# Altium footprint library Power_Card_1.PcbLib: 40 footprints (part 2 of 3)
Each footprint in its own frame and in the unit in brackets; x right, y up, seen from the top. Pads: shape width x height; smd on the part's side, far side on the other; paste and mask are expansions set on the pad; w line width, h text height; cw(c..) or ccw(c..) is an arc to the next point about the centre after c.
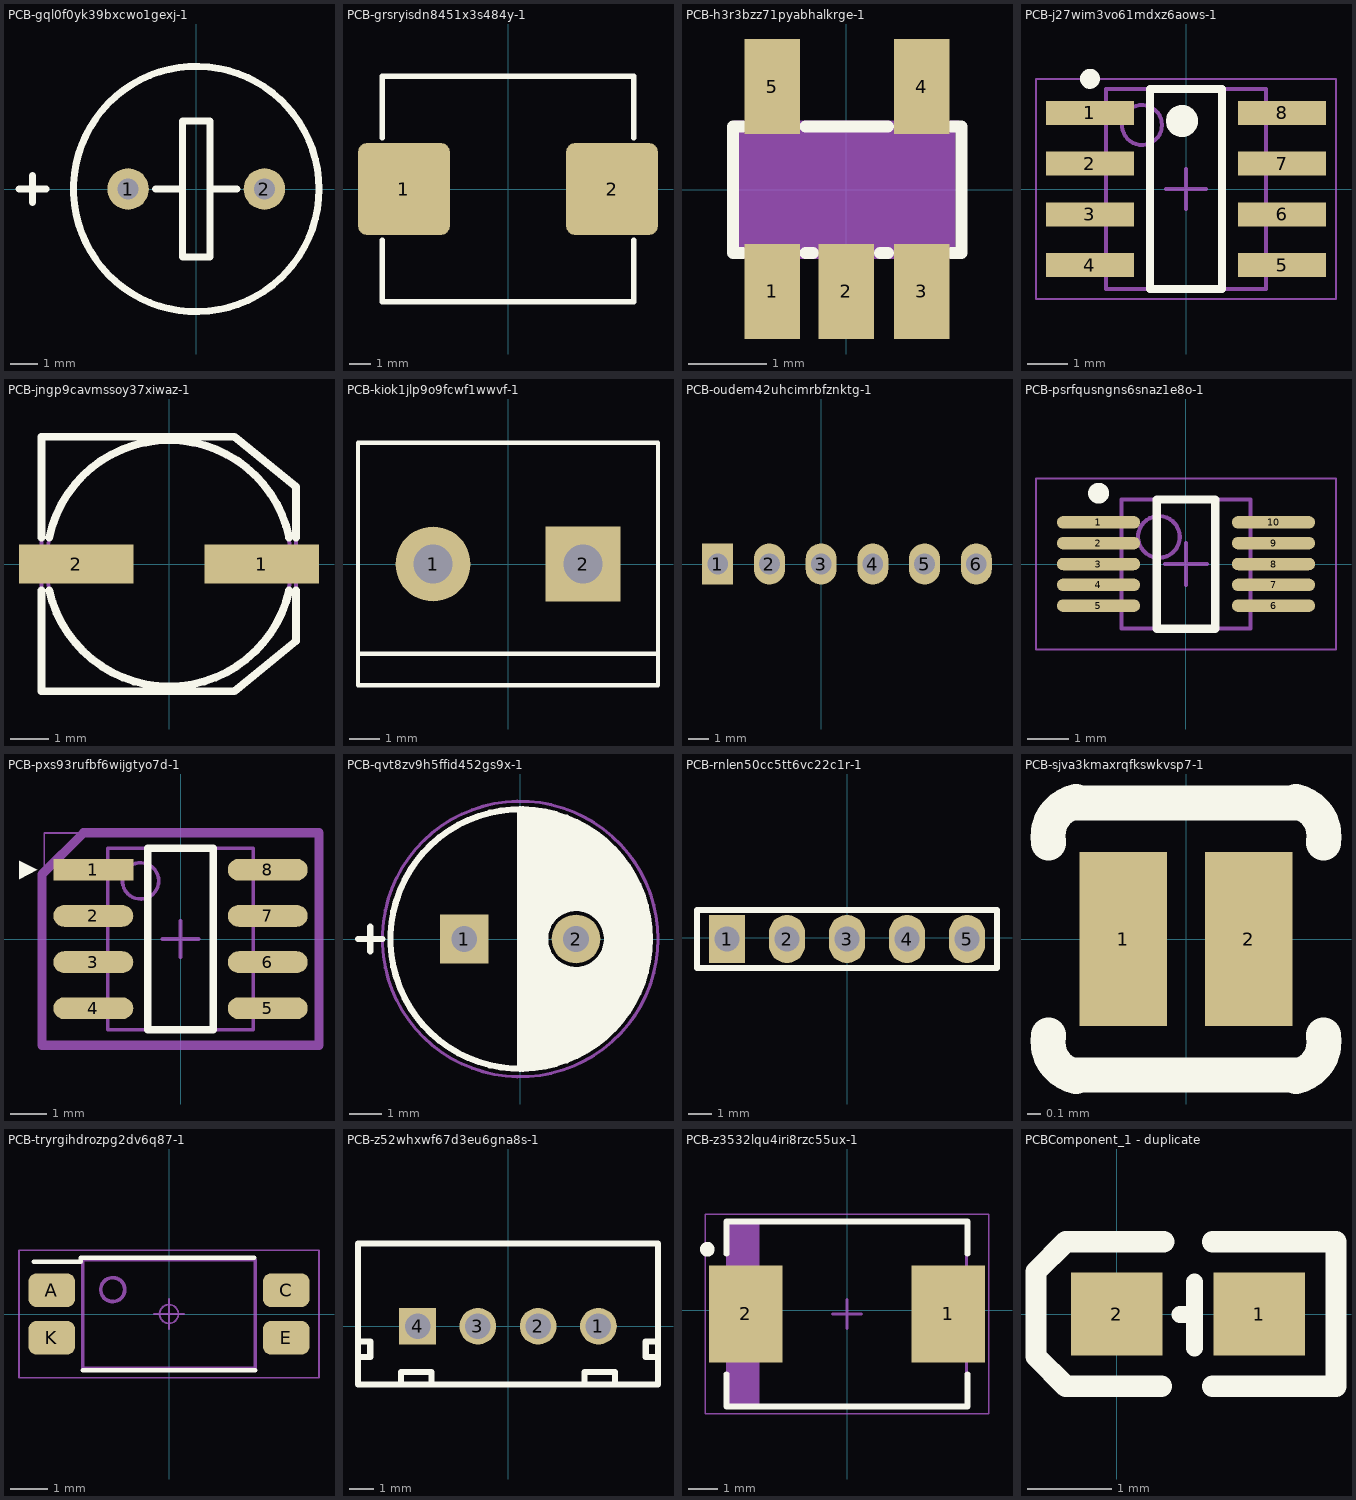
[diagram p1: the footprints below, top view; thin cyan lines are the x and y axes]

## PCB-gql0f0yk39bxcwo1gexj-1 [mil]
pads (2):
  round 60 hole 30: 1(-98.43,0) 2(98.43,0)
Top Overlay:
  circle w10: c0,0 r177.17
  lines w10: -255.91,0 -216.54,0 -226.38,0 ; -236.22,-19.68 -236.22,19.68 ; -59.06,0 -19.68,0 ; 19.68,0 59.06,0 ; -19.68,-98.43 19.68,-98.43 19.68,98.43 -19.68,98.43 -19.68,-98.43
3D body "CUI_DEVICES_CPE-171.step": height 314.96, standoff -157.48, extent -177.17,-177.17 177.16,177.16

## PCB-grsryisdn8451x3s484y-1 [mm]
pads (2):
  rrect20% 4.2x4.2 smd: 1(-4.75,0) 2(4.75,0)
Top Overlay:
  lines w0.254: -5.75,-2.35 -5.75,-2.5 -5.75,-5.15 5.75,-5.15 5.75,-2.5 5.75,-2.35 ; -5.75,2.35 -5.75,2.5 -5.75,5 ; -5.75,4.5 -5.75,5.15 5.75,5.15 5.75,2.5 5.75,2.35
3D body "INDP115100X40M.step": height 4.1, standoff 0, extent -5.85,-5 5.85,5

## PCB-h3r3bzz71pyabhalkrge-1 [mil]
pads (5):
  rect 28x48 smd: 1(-37.4,-51.19) 2(0,-51.19) 3(38,-51.19) 4(38,52) 5(-37.4,52)
Top Overlay:
  lines w6: -52.27,-31.91 -57.09,-31.91 -57.09,32 -52.27,32 ; -20.57,-31.91 -16.83,-31.91 ; -20.57,32 21,32 ; 17,-31.91 21,-31.91 ; 53,-31.91 58,-31.91 58,32 53,32
Mechanical 16:
  rectangle: -47.25,34 -27.56,60
  rectangle: 28,34 48,60
  rectangle: 28,-59.05 48,-33.46
  rectangle: -9.84,-59.06 10,-33.46
  rectangle: -47.24,-59.06 -27.56,-33.46
  lines w6: -56,-31.91 56,-31.91 ; -56,32 56,32
Mechanical 27:
  rectangle: -55,-30 55,30
3D body "SOT23-5.stp": height 57.09, standoff 0, extent -57.09,-55.32 57.09,55.33

## PCB-j27wim3vo61mdxz6aows-1 [mm]
pads (8):
  rect 2.2x0.6 smd: 1(-2.4,1.905) 2(-2.4,0.635) 3(-2.4,-0.635) 4(-2.4,-1.905) 5(2.4,-1.905) 6(2.4,-0.635) 7(2.4,0.635) 8(2.4,1.905)
Top Overlay:
  circle w0.4: c-0.1,1.7 r0.2
  circle w0.25: c-2.4,2.755 r0.125
  lines w0.2: -0.9,-2.5 0.9,-2.5 0.9,2.5 -0.9,2.5 -0.9,-2.5
Mechanical 13:
  circle w0.1: c-1.1,1.6 r0.5
  lines w0.1: -2,-2.5 2,-2.5 2,2.5 -2,2.5 -2,-2.5
Mechanical 15:
  lines w0.05: -3.75,-2.75 3.75,-2.75 3.75,2.75 -3.75,2.75 -3.75,-2.75
  lines w0.1: -0.5,0 0.5,0 ; 0,-0.5 0,0.5
3D body "SO-8.step": height 1.88, standoff -0.03, extent -3.169,-2.504 3.169,2.5

## PCB-jngp9cavmssoy37xiwaz-1 [mil]
pads (2):
  rect 117x40 smd: 1(94.74,0) 2(-94.74,0)
Top Overlay:
  lines w8: -130.18,-26.97 -130.18,-129.92 66.74,-129.92 129.74,-78.74 129.74,-26.97 ; -130.18,27 -130.18,130 66.74,130 129.74,79 129.74,27 ; -122.3,-26.97 ccw(c0.22,0.48) 122.74,-26.97 ; -122.3,27 cw(c0.22,1.52) 122.74,27
Mechanical 16:
  circle w4: c-0.26,0 r125
  lines w4: -130.18,-129.92 -130.18,130 66.74,130 129.74,79 129.74,-78.74 66.74,-129.92 -130.18,-129.92
3D body "NIPPON_F80.stp": height 314.96, standoff 0, extent -153.55,-129.92 153.54,129.92

## PCB-kiok1jlp9o9fcwf1wwvf-1 [mm]
pads (2):
  round 2.5 hole 1.3: 1(-2.5,0)
  rect 2.5x2.5 hole 1.3: 2(2.5,0)
Top Overlay:
  lines w0.15: -5,-3 5,-3 ; -5,-4.05 -5,4.05 5,4.05 5,-4.05 -5,-4.05
3D body "1729018.stp": height 10, standoff -3.5, extent -5.57,-4.075 5,4.075

## PCB-oudem42uhcimrbfznktg-1 [mil]
pads (6):
  rect 60x80 hole 40: 1(-200,0)
  oval 60x80 hole 40: 2(-100,0) 3(0,0) 4(100,0) 5(200,0) 6(300,0)
3D body "6 Pitch 2.54mm header.step": height 373.85, standoff -125.98, extent -250,-52 350,48

## PCB-psrfqusngns6snaz1e8o-1 [mm]
pads (10):
  oval 2x0.3 smd: 1(-2.1,1) 2(-2.1,0.5) 3(-2.1,0) 4(-2.1,-0.5) 5(-2.1,-1) 6(2.1,-1) 7(2.1,-0.5) 8(2.1,0) 9(2.1,0.5) 10(2.1,1)
Top Overlay:
  circle w0.25: c-2.1,1.7 r0.125
  lines w0.2: -0.7,-1.55 -0.7,1.55 0.7,1.55 0.7,-1.55 -0.7,-1.55
Mechanical 13:
  circle w0.1: c-0.65,0.65 r0.5
  lines w0.1: -1.55,-1.55 -1.55,1.55 1.55,1.55 1.55,-1.55 -1.55,-1.55
Mechanical 15:
  lines w0.05: -3.6,-2.05 -3.6,2.05 3.6,2.05 3.6,-2.05 -3.6,-2.05
  lines w0.1: -0.5,0 0.5,0 ; 0,-0.5 0,0.5
3D body: height 1.1, standoff 0, extent -1.55,-1.55 1.55,1.55

## PCB-pxs93rufbf6wijgtyo7d-1 [mm]
pads (8):
  rect 2.2x0.6 smd: 1(-2.4,1.905)
  oval 2.2x0.6 smd: 2(-2.4,0.635) 3(-2.4,-0.635) 4(-2.4,-1.905) 5(2.4,-1.905) 6(2.4,-0.635) 7(2.4,0.635) 8(2.4,1.905)
Top Overlay:
  region: -3.937,1.905 -4.445,2.159 -4.445,1.651
  lines w0.2: -0.9,-2.5 0.9,-2.5 0.9,2.5 -0.9,2.5 -0.9,-2.5
Mechanical 8:
  lines w0.254: -3.81,-2.921 -3.81,1.778 -2.667,2.921 3.81,2.921 3.81,-2.921 -3.81,-2.921
  text ".Designator" at -3.175,-0.889 h1.52
Mechanical 13:
  circle w0.1: c-1.1,1.6 r0.5
  lines w0.1: -2,-2.5 2,-2.5 2,2.5 -2,2.5 -2,-2.5
Mechanical 15:
  lines w0.05: -3.75,-2.921 3.75,-2.921 3.75,2.921 -3.75,2.921 -3.75,-2.921
  lines w0.1: -0.5,0 0.5,0 ; 0,-0.5 0,0.5
3D body "User Library-SOIC-8-1.step": height 1.75, standoff 0, extent -3,-2.45 3,2.45

## PCB-qvt8zv9h5ffid452gs9x-1 [mil]
pads (2):
  rect 60x60 hole 31.5: 1(-68.9,-0.01)
  round 60 hole 31.5: 2(68.89,-0.01)
Top Overlay:
  circle w30: c68.89,-0.01 r53.89
  circle w10: c68.89,-0.01 r39.35
  circle w7.87: c0,0 r160
  region: 0,15 0,160 55,150 105,120 135,85 155,40 160,-10 145,-65 115,-110 75,-140 25,-160 0,-160 0,-5 45,-45 95,-40 120,-5 80,55 20,5
  lines w7.87: -200,0 -170,0 ; -185,-15 -185,15 ; 0,-160 0,160
Mechanical 1:
  circle w3.94: c0,0 r170
3D body "User%20Library-CAPAER_D080_L125_P035_W006X030[1].STEP": height 492.65, standoff -118.11, extent -157.48,-157.48 157.87,157.48

## PCB-rnlen50cc5tt6vc22c1r-1 [mil]
pads (5):
  rect 60x80 hole 42: 1(-200,-2)
  oval 60x80 hole 42: 2(-100,-2) 3(0,-2) 4(100,-2) 5(200,-2)
Top Overlay:
  lines w10: -250,-50 250,-50 250,46 -250,46 -250,-50
3D body "929-Header-1x5.step": height 407.5, standoff -127.5, extent -250,-50 250,46

## PCB-sjva3kmaxrqfkswkvsp7-1 [mil]
pads (2):
  rect 25x50 smd: 1(-18,0) 2(18,0)
Top Overlay:
  lines w10: -39.37,-27.56 ccw(c-29.53,-29.53) -31.5,-39.37 ; -39.37,27.56 cw(c-29.53,29.53) -31.5,39.37 ; -31,-39 31,-39 ; -31,39 31,39 ; 31.49,-39.37 ccw(c29.53,-29.53) 39.37,-27.56 ; 31.49,39.37 cw(c29.53,29.53) 39.37,27.56

## PCB-tryrgihdrozpg2dv6q87-1 [mm]
pads (4):
  rrect50% 1.25x0.9 smd: A(-3.125,0.635) C(3.125,0.635) E(3.125,-0.635) K(-3.125,-0.635)
Top Overlay:
  lines w0.12: -3.6,1.4 -2.35,1.4 -2.35,1.5 2.275,1.5 ; -2.3,-1.5 2.3,-1.5
Mechanical 8:
  circle w0.1: c-1.5,0.65 r0.32
  lines w0.1: -2.3,-1.45 -2.3,1.45 2.3,1.45 2.3,-1.45 -2.3,-1.45
  text ".Designator" at -2,-0.875 h1.27
Mechanical 15:
  circle w0.05: c0,0 r0.25
  lines w0.05: -0.4,0 0.4,0 ; 0,-0.4 0,0.4 ; -4,-1.7 4,-1.7 4,1.7 -4,1.7 -4,-1.7
3D body "SSOP-4.STEP": height 2.1, standoff 0, extent -3.5,-1.425 3.5,1.425

## PCB-z52whxwf67d3eu6gna8s-1 [mil]
pads (4):
  round 60 hole 42: 1(147.64,0) 2(49.21,0) 3(-49.21,0)
  rect 60x60 hole 42: 4(-147.64,0)
Top Overlay:
  lines w10: -245,-50 -225,-50 -225,-25 -245,-25 ; -175,-95 -175,-75 -125,-75 -125,-95 ; 125,-95 125,-75 175,-75 175,-95 ; 245,-50 225,-50 225,-25 245,-25 ; -245,-95 245,-95 245,135 -245,135 -245,-95
3D body "B4B-XH-A.STEP": height 275.59, standoff -133.86, extent -244.09,-93.18 244.1,133.2

## PCB-z3532lqu4iri8rzc55ux-1 [mm]
pads (2):
  rect 2.5x3.3 smd: 1(3.45,-0.127) 2(-3.45,-0.127)
Top Overlay:
  circle w0.25: c-4.75,2.073 r0.125
  lines w0.2: -4.1,-2.177 -4.1,-3.277 4.1,-3.277 4.1,-2.177 ; -4.1,1.923 -4.1,3.023 4.1,3.023 4.1,1.923
Mechanical 13:
  rectangle: -4.065,-3.237 -2.972,2.983
  lines w0.1: -4.065,-3.237 -4.065,2.983 4.065,2.983 4.065,-3.237 -4.065,-3.237
Mechanical 15:
  lines w0.05: -4.825,-3.527 -4.825,3.273 4.825,3.273 4.825,-3.527 -4.825,-3.527
  lines w0.1: -0.5,-0.127 0.5,-0.127 ; 0,-0.627 0,0.373
3D body "SMC.step": height 2.45, standoff 0, extent -4.065,-3.237 4.065,2.983

## PCBComponent_1 - duplicate [mil]
pads (2):
  rect 43x39 smd: 1(67,0) 2(0,0)
Top Overlay:
  lines w7.99: 29.6,-0.31 36.5,-0.31 ; 36.5,-16 36.5,15
  lines w10: 21,-34 -24,-34 -38,-20 -38,20 -24,34 22,34 ; 45,-34 103,-34 103,34 45,34
3D body "LED_0603_1608Metric.step": height 43.31, standoff 0, extent 5.5,-15.75 68.5,15.75